# EAGLE library part TPS74801_RGW_20 (library Texas Instruments)
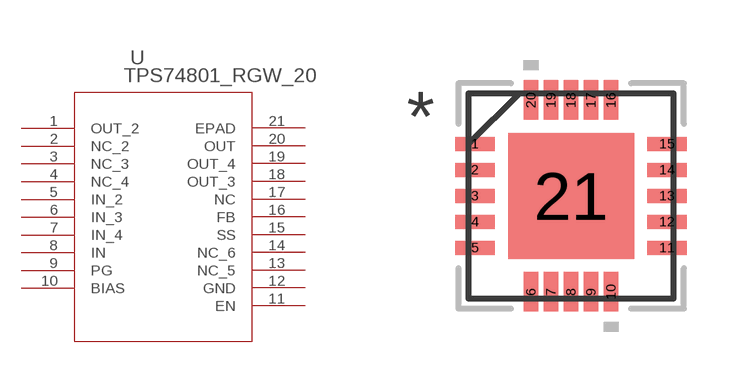
[diagram p33: symbol with the pads of RGW20_3P15X3P15; footprint RGW20_3P15X3P15]

Designator prefix U

## TPS74801_RGW_20 (DATASHEETURL: http://www.ti.com/lit/gpn/TPS74801; DESCRIPTION: Single Output LDO, 1.5A, Adj. (0.8 to 3.6V), Programmable Soft-Start; FAMILY_NAME: SINGLE CHANNEL LDO; GENERIC_PART_NUMBER: TPS74801; INDUSTRY_STD_PKG_TYPE: VQFN; MANUFACTURER: Texas Instruments; MANUFACTURER_PART_NUMBER: tps74801_rgw_20; PACKAGE_DESIGNATOR: RGW; PIN_COUNT: 20; VENDOR: Texas Instruments)  [RGW20_3P15X3P15]
1  OUT_2  out
2  NC_2  pas
3  NC_3  pas
4  NC_4  pas
5  IN_2  in
6  IN_3  in
7  IN_4  in
8  IN  in
9  PG  pas
10  BIAS  pas
11  EN  pas
12  GND  pwr
13  NC_5  pas
14  NC_6  pas
15  SS  pas
16  FB  pas
17  NC  pas
18  OUT_3  out
19  OUT_4  out
20  OUT  out
21  EPAD  pas

## Footprint RGW20_3P15X3P15 (pad centres in mm)
smd 0.991 x 0.356: 1 -2.4,1.3; 2 -2.4,0.65; 3 -2.4,0; 4 -2.4,-0.65; 5 -2.4,-1.3; 11 2.4,-1.3; 12 2.4,-0.65; 13 2.4,0; 14 2.4,0.65; 15 2.4,1.3
smd 0.356 x 0.991: 6 -1,-2.4; 7 -0.5,-2.4; 8 0,-2.4; 9 0.5,-2.4; 10 1,-2.4; 16 1,2.4; 17 0.5,2.4; 18 0,2.4; 19 -0.5,2.4; 20 -1,2.4
smd 3.15 x 3.15: 21 0,0